# Altium schematic symbol library RJ45-8N4-B.SchLib: 1 symbol
Pins are listed as number, name and electrical type; pins without a type are passive.

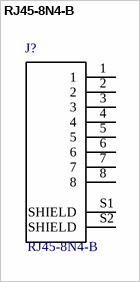
[diagram p0: symbol RJ45-8N4-B]

## RJ45-8N4-B
designator J?
Telecom & Ethernet Connectors 6 TRMN BRD/CBLE GRND 8 PIN BLOCK INDUCTOR; MF: TE Connectivity; Price: None; SnapEDA_Link: https://www.snapeda.com/parts/RJ45-8N4-B/TE%20Connectivity%20Corcom%20Filters/view-part/?ref=snap; Availability: Unavailable; MP: RJ45-8N4-B; TE_purchase_URL: https://www.te.com/usa-en/product-RJ45-8N4-B.html?te_bu=Cor&te_type=disp&te_campaign=seda_glo_cor-seda-global-disp-prtnr-fy19-seda-model-bom-cta_sma-317_1&elqCampaignId=32493; Package: None; Value: *
footprint *TE_RJ45-8N4-B_RJ45-8N4-B(Primary)
pins: 1, 2, 3, 4, 5, 6, 7, 8, S1 SHIELD, S2 SHIELD